# EAGLE library part AJP92A8813 (library AJP92A8813)
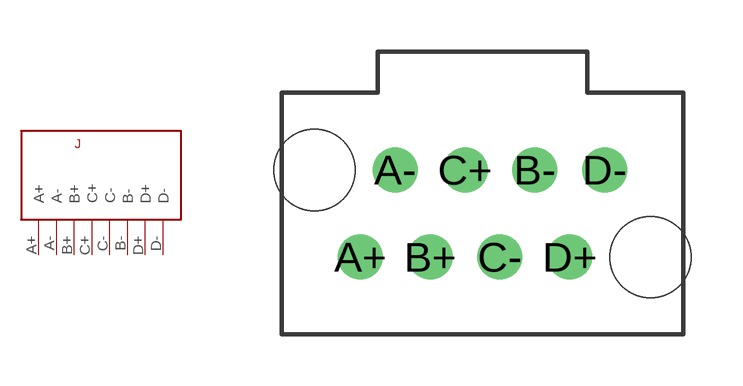
[diagram p0: symbol with the pads of AJP92A8813; footprint AJP92A8813]

Designator prefix J

## AJP92A8813  [AJP92A8813]
A+  A+
A-  A-
B+  B+
B-  B-
C+  C+
C-  C-
D+  D+
D-  D-

## Footprint AJP92A8813 (pad centres in mm)
drill 0.8: A+ -3.556,-1.27; A- -2.54,1.27; B+ -1.524,-1.27; B- 1.524,1.27; C+ -0.508,1.27; C- 0.508,-1.27; D+ 2.54,-1.27; D- 3.556,1.27
hole 2.36 at -4.89,1.27
hole 2.36 at 4.89,-1.27